# Altium footprint library TIDA-0100561.PcbLib: 31 footprints (part 1 of 2)
Each footprint in its own frame and in the unit in brackets; x right, y up, seen from the top. Pads: shape width x height; smd on the part's side, far side on the other; paste and mask are expansions set on the pad; w line width, h text height; cw(c..) or ccw(c..) is an arc to the next point about the centre after c.
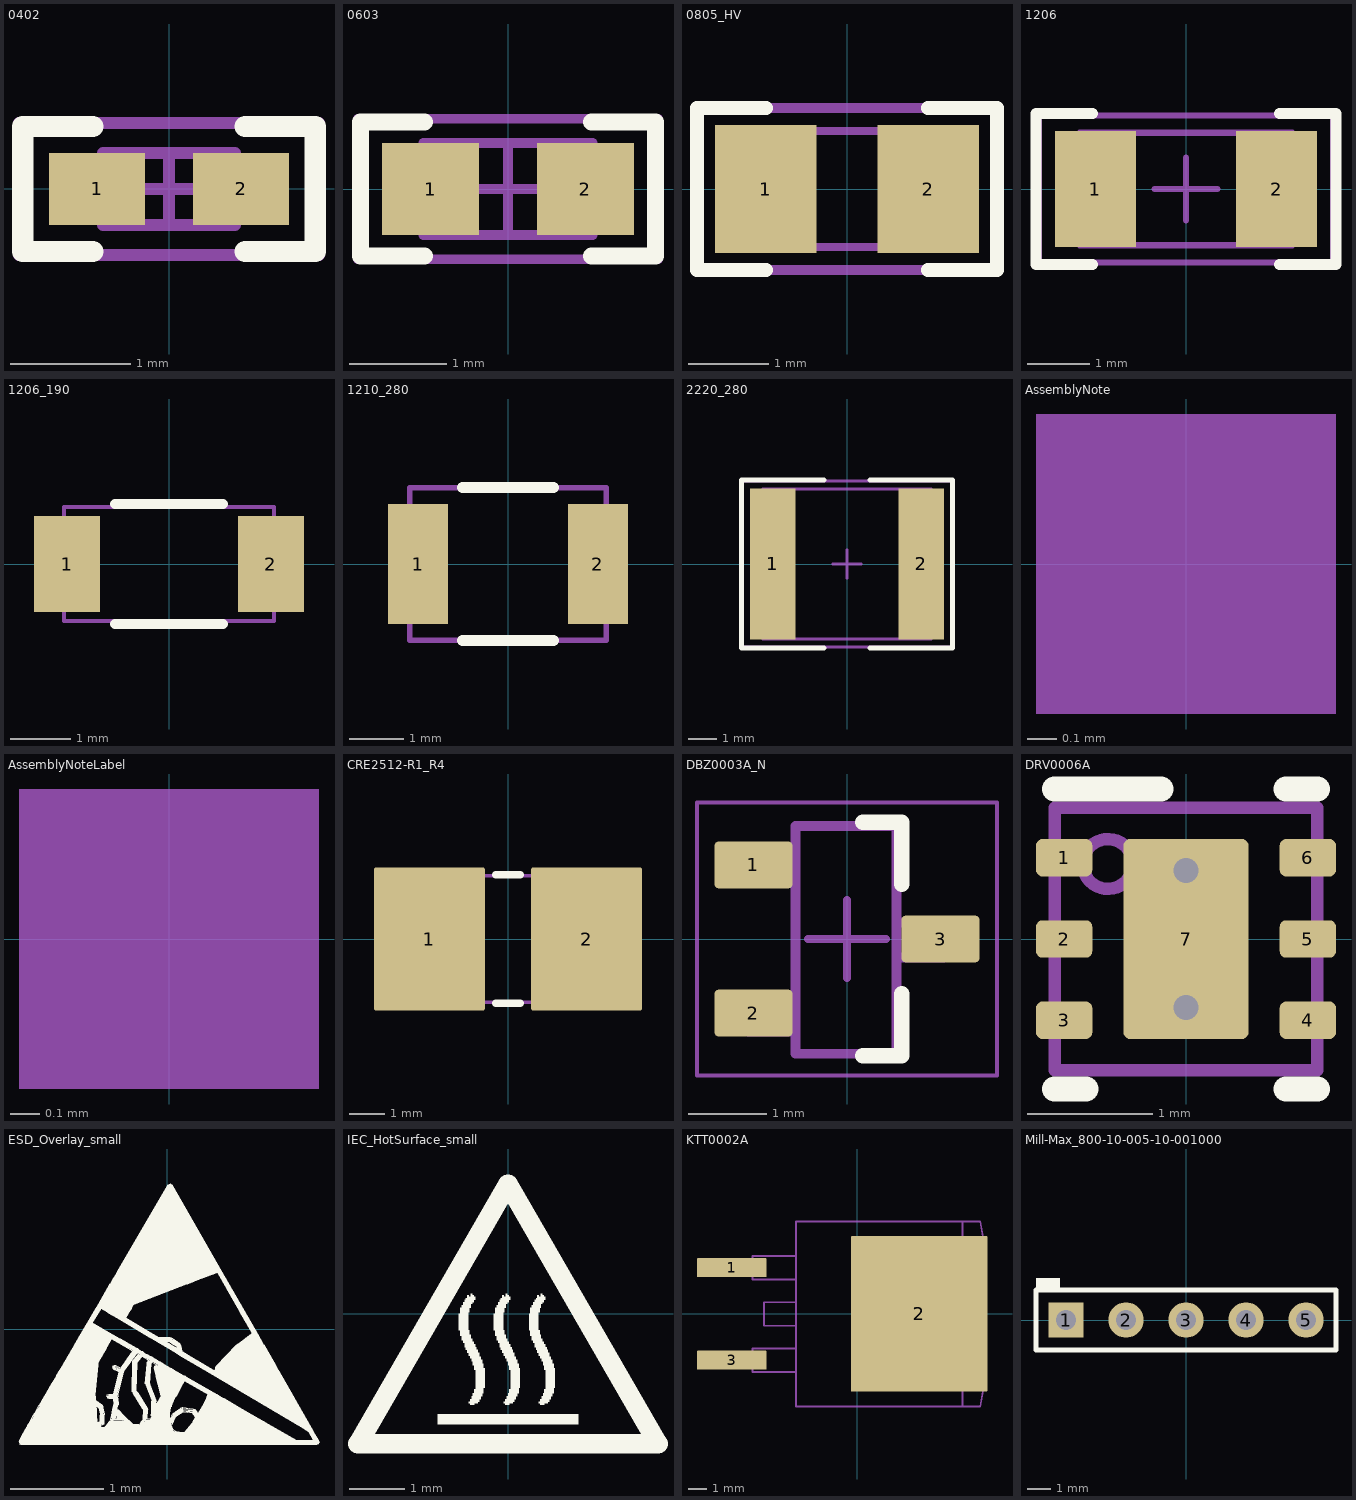
[diagram p0: the footprints below, top view; thin cyan lines are the x and y axes]

## 0402 [mm] "0402 from SM-752 data"
height 0.6
pads (2):
  rect 0.8x0.6 smd: 1(-0.6,0) 2(0.6,0)
Top Overlay:
  lines w0.178: -0.635,-0.521 -1.219,-0.521 -1.219,0.521 -0.635,0.521 ; 0.635,-0.521 1.219,-0.521 1.219,0.521 0.635,0.521
Mechanical 5:
  lines w0.1: -1.25,-0.55 -1.25,0.55 1.25,0.55 1.25,-0.55 -1.25,-0.55
  text ".Designator" at -1.117,-0.305 h0.61
Mechanical 13:
  lines w0.1: -0.35,-0.3 -0.35,0.3 ; 0.35,-0.3 0.35,0.3 ; -0.55,-0.3 0.55,-0.3 0.55,0.3 -0.55,0.3 -0.55,-0.3
Mechanical 15:
  lines w0.1: -0.3,0 0.3,0 ; 0,-0.3 0,0.3 ; -1.25,-0.55 1.25,-0.55 1.25,0.55 -1.25,0.55 -1.25,-0.55
3D body: height 0.6, standoff 0, extent 0.351,-0.299 0.549,0.299
3D body: height 0.6, standoff 0, extent -0.349,-0.299 0.349,0.299
3D body: height 0.6, standoff 0, extent -0.549,-0.299 -0.351,0.299

## 0603 [mm] "0603 from SM-752 data"
height 1
pads (2):
  rect 1x0.95 smd: 1(-0.8,0) 2(0.8,0)
Top Overlay:
  lines w0.178: -0.864,-0.691 -1.524,-0.691 -1.524,0.693 -0.864,0.693 ; 0.864,-0.691 1.524,-0.691 1.524,0.693 0.864,0.693
Mechanical 5:
  lines w0.1: -1.55,-0.725 -1.55,0.725 1.55,0.725 1.55,-0.725 -1.55,-0.725
  text ".Designator" at -1.397,-0.381 h0.76
Mechanical 13:
  lines w0.1: -0.55,-0.475 -0.55,0.475 ; 0.55,-0.475 0.55,0.475 ; -0.875,-0.475 0.875,-0.475 0.875,0.475 -0.875,0.475 -0.875,-0.475
Mechanical 15:
  lines w0.1: -0.475,0 0.475,0 ; 0,-0.475 0,0.475 ; -1.55,-0.725 1.55,-0.725 1.55,0.725 -1.55,0.725 -1.55,-0.725
3D body: height 1, standoff 0, extent -0.874,-0.474 -0.551,0.474
3D body: height 1, standoff 0, extent -0.549,-0.474 0.549,0.474
3D body: height 1, standoff 0, extent 0.551,-0.474 0.874,0.474

## 0805_HV [mil] "0805 with 30mil clearance between pads"
height 57.09
pads (2):
  rect 50x63 smd: 1(-40,0) 2(40,0)
Top Overlay:
  lines w7: -40,-40 -74,-40 -74,0 -74,40 -40,40 ; 40,-40 74,-40 74,0 74,40 40,40
Mechanical 5:
  lines w5: -74,-40 -74,40 74,40 74,-40 -74,-40
  text ".Designator" at -64,-17 h35
Mechanical 13:
  lines w3.94: -25.59,-28.54 -25.59,28.54 ; 25.59,-28.54 25.59,28.54 ; -43.31,-28.54 -43.31,28.54 43.31,28.54 43.31,-28.54 -43.31,-28.54
3D body: height 57.09, standoff 0, extent 25.61,-28.52 43.29,28.52
3D body: height 57.09, standoff 0, extent -25.57,-28.52 25.57,28.52
3D body: height 57.09, standoff 0, extent -43.29,-28.52 -25.61,28.52

## 1206 [mm] "1206 from SM-752 data"
height 1.35
pads (2):
  rect 1.3x1.85 smd: 1(-1.45,0) 2(1.45,0)
Top Overlay:
  lines w0.178: -1.5,-1.21 -2.4,-1.21 -2.4,1.21 -1.5,1.21 ; 1.5,-1.21 2.4,-1.21 2.4,1.21 1.5,1.21
Mechanical 5:
  lines w0.1: -1.7,-0.9 -1.7,0.9 1.7,0.9 1.7,-0.9 -1.7,-0.9
  text ".Designator" at -1.475,-0.4 h0.81
Mechanical 13:
  lines w0.1: -1.2,-0.9 -1.2,0.9 ; 1.2,-0.9 1.2,0.9 ; -1.7,-0.9 -1.7,0.9 1.7,0.9 1.7,-0.9 -1.7,-0.9
Mechanical 15:
  lines w0.1: -0.5,0 0.5,0 ; 0,-0.5 0,0.5 ; -2.35,-1.175 -2.35,1.175 2.35,1.175 2.35,-1.175 -2.35,-1.175
3D body: height 1.35, standoff 0, extent 1.201,-0.899 1.699,0.899
3D body: height 1.35, standoff 0, extent -1.199,-0.899 1.199,0.899
3D body: height 1.35, standoff 0, extent -1.699,-0.899 -1.201,0.899

## 1206_190 [mm] "1206_190"
height 1.9
pads (2):
  rect 1.1x1.6 smd: 1(-1.7,0) 2(1.7,0)
Top Overlay:
  lines w0.17: -0.9,-1 0.9,-1 ; -0.9,1 0.9,1
Mechanical 5:
  lines w0.07: -1.75,-0.95 1.75,-0.95 1.75,0.95 -1.75,0.95 -1.75,-0.95
  text ".Designator" at -1.5,-0.4 h0.64
3D body: height 1.9, standoff 0, extent -1.749,-0.949 -1.301,0.949
3D body: height 1.9, standoff 0, extent -1.299,-0.949 1.299,0.949
3D body: height 1.9, standoff 0, extent 1.301,-0.949 1.749,0.949

## 1210_280 [mm] "SMD, 2-Leads, Body 3.6x2.8mm, Height 2.8mm"
height 2.8
pads (2):
  rect 1.1x2.2 smd: 1(-1.65,0) 2(1.65,0)
Top Overlay:
  lines w0.2: -0.835,-1.4 0.835,-1.4 ; -0.835,1.4 0.835,1.4
Mechanical 5:
  lines w0.1: -1.8,-1.4 -1.8,1.4 1.8,1.4 1.8,-1.4 -1.8,-1.4
  text ".Designator" at -1.6,-0.5 h0.8
3D body: height 2.8, standoff 0, extent -1.8,-1.4 -1.6,1.4
3D body: height 2.8, standoff 0, extent -1.6,-1.4 1.6,1.4
3D body: height 2.8, standoff 0, extent 1.6,-1.4 1.8,1.4

## 2220_280 [mm] "Chip Capacitor, Body 5.7x5.0mm, IPC Medium Density"
height 2.8
pads (2):
  rect 1.6x5.3 smd: 1(-2.6,0) 2(2.6,0)
Top Overlay:
  lines w0.178: -0.811,-2.939 -3.693,-2.939 -3.693,2.939 -0.811,2.939 ; 0.811,-2.939 3.693,-2.939 3.693,2.939 0.811,2.939
Mechanical 5:
  lines w0.1: -2.95,-2.625 -2.95,2.625 2.95,2.625 2.95,-2.625 -2.95,-2.625
  text ".Designator" at -1.875,-0.5 h1.02
Mechanical 13:
  lines w0.1: -2.75,-2.625 -2.75,2.625 ; 2.75,-2.625 2.75,2.625 ; -2.95,-2.625 2.95,-2.625 2.95,2.625 -2.95,2.625 -2.95,-2.625
Mechanical 15:
  lines w0.1: -0.5,0 0.5,0 ; 0,-0.5 0,0.5 ; -3.65,-2.9 3.65,-2.9 3.65,2.9 -3.65,2.9 -3.65,-2.9
3D body: height 2.8, standoff 0, extent 2.751,-2.624 2.949,2.624
3D body: height 2.8, standoff 0, extent -2.749,-2.624 2.749,2.624
3D body: height 2.8, standoff 0, extent -2.949,-2.624 -2.751,2.624

## AssemblyNote [mm] "Assembly Note"
height 1.905
Mechanical 5:
  rectangle: -0.508,-0.508 0.508,0.508
  text ".Comment" at -0.279,-1.016 h0.64

## AssemblyNoteLabel [mm] "Assembly Note for PCB Labels"
height 8.382
Mechanical 5:
  rectangle: -0.508,-0.508 0.508,0.508
  text ".Designator" at -4.191,-0.508 h0.64
  text "Install label in silkscreened box after final wash.  Text shall be 8 pt font.  Text shall be per the Label Table in the PDF schematic." at 1.143,-0.508 h0.64

## CRE2512-R1_R4 [mm] "SMD, 2-Leads, Body 6.45x3.35mm"
height 0.9
pads (2):
  rrect3% 3.1x4 smd: 1(-2.2,0) 2(2.2,0)
Top Overlay:
  lines w0.2: -0.35,-1.8 0.35,-1.8 ; -0.35,1.8 0.35,1.8
Mechanical 5:
  lines w0.1: -3.325,-1.775 -3.325,1.775 3.325,1.775 3.325,-1.775 -3.325,-1.775
  text ".Designator" at -1.2,-0.4 h1.5
3D body "CRE2512-R1_R4.stp": height 0.9, standoff 0, extent -3.325,-1.775 3.325,1.775

## DBZ0003A_N [mm] "SOT23, 3-Leads, Body 2.9x1.3mm, Pitch 0.95mm, Lead Span 2.4mm, IPC Medium Density"
height 1.12
pads (3):
  rrect17% 1x0.6 smd: 1(-1.2,0.95) 2(-1.2,-0.95) 3(1.2,0)
Top Overlay:
  lines w0.2: 0.2,-1.5 0.7,-1.5 0.7,-0.7 ; 0.2,1.5 0.7,1.5 0.7,0.7
Mechanical 5:
  lines w0.127: -1.27,-1.187 -1.27,-0.743 -1.063,-0.743 -1.005,-0.743 -0.814,-0.743 -0.66,-0.743 -0.66,-1.187 -0.814,-1.187 -1.005,-1.187 -1.063,-1.187 -1.27,-1.187 ; -1.27,0.718 -1.27,1.162 -1.063,1.162 -1.005,1.162 -0.814,1.162 -0.66,1.162 -0.66,0.718 -0.814,0.718 -1.005,0.718 -1.063,0.718 -1.27,0.718 ; -0.66,-1.473 -0.66,1.448 0.635,1.448 0.635,-1.473 -0.66,-1.473 ; 0.635,-0.235 0.789,-0.235 0.98,-0.235 1.037,-0.235 1.245,-0.235 1.245,0.21 1.037,0.21 0.98,0.21 0.789,0.21 0.635,0.21 0.635,-0.235
  text ".Designator" at -0.254,0.889 h0.51
Mechanical 15:
  lines w0.05: -1.925,-1.75 1.925,-1.75 1.925,1.75 -1.925,1.75 -1.925,-1.75
  lines w0.1: -0.5,0 0.5,0 ; 0,-0.5 0,0.5
3D body "DBZ0003A.stp": height 0.98, standoff 0, extent -1.257,-1.46 1.257,1.461

## DRV0006A [mm] "SON, 6-Leads, Body 2x2mm, Pitch 0.65mm, Thermal Pad 1.6x1mm, TI Recommended"
height 0.8
pads (7):
  rrect33% 0.45x0.3 smd: 1(-0.975,0.65) 2(-0.975,0) 3(-0.975,-0.65) 4(0.975,-0.65) 5(0.975,0) 6(0.975,0.65)
  rrect10% 1x1.6 smd paste-0.5: 7(0,0)
via 0,0.55 diameter 0.5 hole 0.2
via 0,-0.55 diameter 0.5 hole 0.2
Top Overlay:
  lines w0.2: -1.05,-1.2 -0.8,-1.2 ; -1.05,1.2 -0.2,1.2 ; 0.8,-1.2 1.05,-1.2 ; 0.8,1.2 1.05,1.2
Top Paste:
  region: 0.475,-0.733 0.475,0.733 -0.474,0.733 -0.474,-0.733
Mechanical 5:
  circle w0.1: c-0.625,0.6 r0.2
  lines w0.1: -1.05,-1.05 -1.05,1.05 1.05,1.05 1.05,-1.05 -1.05,-1.05
  text ".Designator" at -0.9,-0.5 h0.51
3D body: height 0.8, standoff 0, extent -1.05,-1.05 1.05,1.05
3D body: height 0.81, standoff 0.5, extent -0.824,0.401 -0.426,0.799

## ESD_Overlay_small [mm]
height 1.45
Top Overlay:
  drawing of 901 lines, arcs and shapes, not listed

## IEC_HotSurface_small [mm]
Top Overlay:
  drawing of 10 lines, arcs and shapes, not listed

## KTT0002A [mm] "TO-263-2"
height 4.7
pads (3):
  rrect10% 3.82x1.05 smd: 1(-6.9,2.54) 3(-6.9,-2.54)
  rrect1% 7.48x8.55 smd paste-4.2: 2(3.4,0)
Top Paste:
  drawing of 42 lines, arcs and shapes, not listed
Mechanical 5:
  lines w0.1: 5.776,-5.088 5.776,-3.183 ; 5.776,-5.088 6.755,-5.088 7.046,-3.437 7.046,3.421 6.755,5.072 5.776,5.072 ; 5.776,-5.088 5.776,-3.183 ; 5.776,-5.088 5.371,-5.088 -3.195,-5.088 -3.374,-5.088 -3.374,5.072 -3.195,5.072 5.371,5.072 5.776,5.072 ; 5.776,-3.183 5.776,3.167 ; 5.776,3.167 5.776,5.072 ; 5.776,3.167 5.776,5.072 ; -8.025,-2.965 -6.231,-2.965 -5.99,-2.965 -5.757,-2.965 -5.757,-3.195 -5.42,-3.195 -4.783,-3.195 -3.374,-3.195 -3.374,-1.9 -4.783,-1.9 -5.42,-1.9 -5.757,-1.9 -5.757,-2.13 -5.99,-2.13 -6.231,-2.13 -8.025,-2.13 -8.025,-2.965 ; -8.025,2.115 -6.231,2.115 -5.99,2.115 -5.757,2.115 -5.757,1.885 -5.42,1.885 -4.783,1.885 -3.374,1.885 -3.374,3.18 -4.783,3.18 -5.42,3.18 -5.757,3.18 -5.757,2.95 -5.99,2.95 -6.231,2.95 -8.025,2.95 -8.025,2.115 ; -5.124,-0.655 -5.124,0.64 -3.374,0.64 -3.374,-0.655 -5.124,-0.655 ; 3.276,-1.008 cw(c3.276,-0.008) 3.276,0.992 cw(c3.276,-0.008) 3.276,-1.008
  text ".Designator" at -0.514,1.8 h1.02
3D body "KTT0002A.stp": height 4.67, standoff 0, extent -8.026,-5.08 7.045,5.08

## Mill-Max_800-10-005-10-001000 [mm] "Mill-Max"
height 8.128
pads (5):
  rect 1.5x1.5 hole 0.85: 1(-5.08,0)
  round 1.5 hole 0.85: 2(-2.54,0) 3(0,0) 4(2.54,0) 5(5.08,0)
Top Overlay:
  rectangle: -6.35,1.27 -5.334,1.778
  lines w0.203: -6.35,-1.27 6.35,-1.27 6.35,1.27 -6.35,1.27 -6.35,-1.27
Mechanical 5:
  lines w0.102: -6.35,-1.27 -6.35,1.27 6.35,1.27 6.35,-1.27 -6.35,-1.27
  text ".Designator" at -2.032,-0.508 h1.02
3D body: height 8.13, standoff 0, extent 4.702,-0.38 5.461,0.38
3D body: height 8.13, standoff 0, extent 2.162,-0.38 2.921,0.38
3D body: height 8.13, standoff 0, extent -0.378,-0.38 0.381,0.38
3D body: height 8.13, standoff 0, extent -2.918,-0.38 -2.159,0.38
3D body: height 8.13, standoff 0, extent -5.458,-0.38 -4.699,0.38
3D body: height 0.81, standoff -3, extent 4.778,-0.304 5.385,0.304
3D body: height 0.81, standoff -3, extent 2.238,-0.304 2.845,0.304
3D body: height 0.81, standoff -3, extent -0.302,-0.304 0.305,0.304
3D body: height 0.81, standoff -3, extent -2.842,-0.304 -2.235,0.304
3D body: height 0.81, standoff -3, extent -5.382,-0.304 -4.775,0.304
3D body: height 3.17, standoff 0, extent -6.349,-1.269 6.349,1.269